# Altium schematic symbol library TestPoint.SchLib: 2 symbols
Pins are listed as number, name and electrical type; pins without a type are passive.

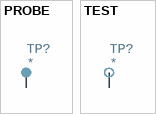
[diagram p0: symbols PROBE to TEST]

## PROBE
designator TP?
pins: 1

## TEST
designator TP?
pins: 1